# Altium footprint library PcbLib1.PcbLib: 29 footprints (part 1 of 2)
Each footprint in its own frame and in the unit in brackets; x right, y up, seen from the top. Pads: shape width x height; smd on the part's side, far side on the other; paste and mask are expansions set on the pad; w line width, h text height; cw(c..) or ccw(c..) is an arc to the next point about the centre after c.
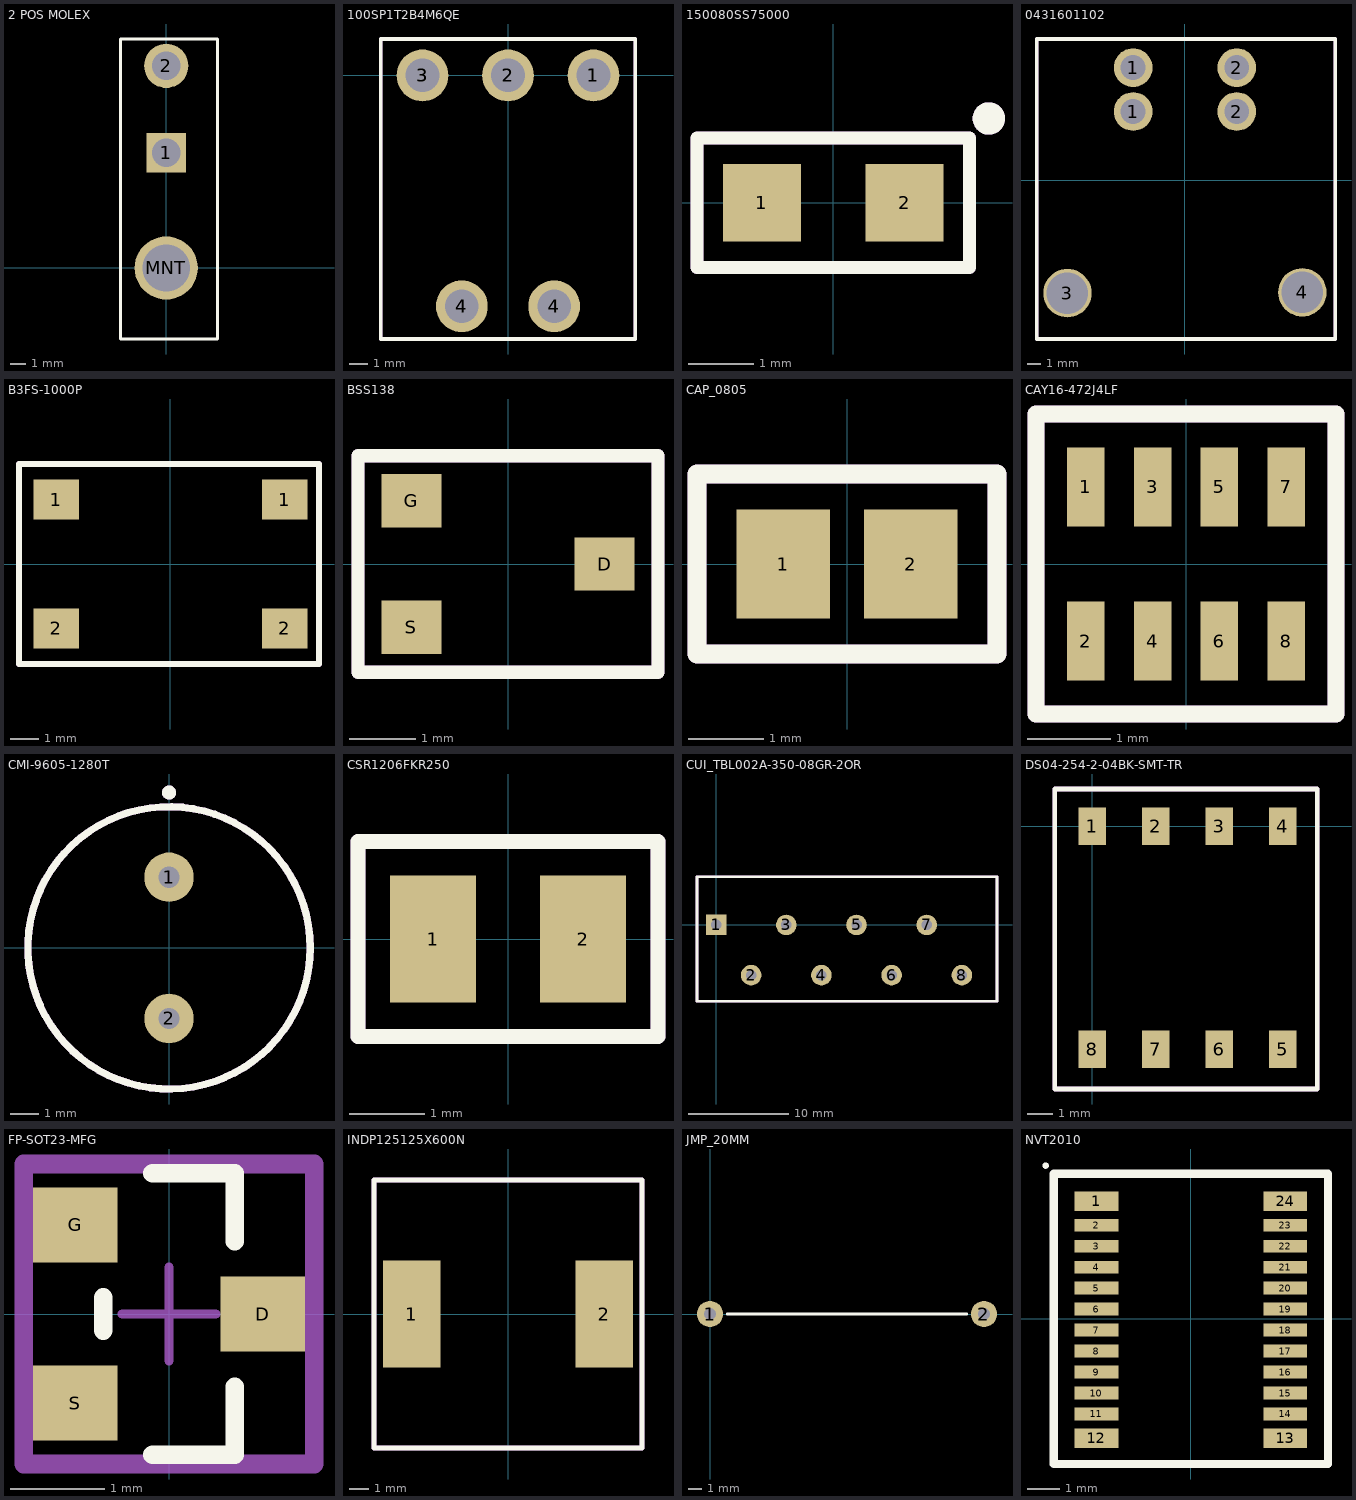
[diagram p0: the footprints below, top view; thin cyan lines are the x and y axes]

## 2 POS MOLEX [mm] "1724480002"
pads (3):
  rect 2.5x2.5 hole 1.8 mask+0.06: 1(0,7.3)
  round 2.8 hole 1.8 mask+0.06: 2(0,12.8)
  round 4 hole 3 unplated mask+0.06: MNT(0,0)
Top Overlay:
  lines w0.2: -2.9,-4.5 -2.9,14.5 3.25,14.5 3.25,-4.5 -2.9,-4.5
Mechanical 16:
  text ".Designator" at 0.838,-3.946 h1.52
3D body "1724480002.stp": height 11.4, standoff -3.6, extent -2.7,-6.567 3.1,13.367

## 100SP1T2B4M6QE [mm]
pads (10):
  round 2.85 hole 1.85 mask+0.06: 1(4.7,0) 1(4.7,0) 2(0,0) 2(0,0) 3(-4.7,0) 3(-4.7,0) 4(-2.54,-12.7) 4(-2.54,-12.7) 4(2.54,-12.7) 4(2.54,-12.7)
Top Overlay:
  lines w0.2: -7,-14.5 7,-14.5 7,2 -7,2 -7,-14.5
Mechanical 16:
  lines w0.2: -7,-14.5 7,-14.5 7,2 -7,2 -7,-14.5
  text ".Designator" at 0.338,-9.946 h1.52
3D body "100SPxT2B4M6xE.stp": height 6.87, standoff -3.16, extent -6.35,-26.56 6.35,0.59
3D body "100SPxT2B4M6xE.stp": height 6.87, standoff -3.16, extent -6.35,-26.56 6.35,0.59

## 150080SS75000 [mm] "150080SS75000"
pads (2):
  rect 1.2x1.2 smd mask+0.06: 1(-1.1,0) 2(1.1,0)
Top Overlay:
  circle w0.25: c2.4,1.3 r0.125
  lines w0.2: -2.1,-1 -2.1,1 2.1,1 2.1,-1 -2.1,-1
Mechanical 16:
  circle w0.25: c2.4,1.3 r0.125
  lines w0.2: -2.1,-1 -2.1,1 2.1,1 2.1,-1 -2.1,-1
  text ".Designator" at -0.546,-0.513 h1

## 0431601102 [mm] "CONN HDR 2POS 7.50MM R/A SLDR"
pads (6):
  round 2.8 hole 1.8 mask+0.07: 1(-3.746,4.978) 1(-3.746,8.153) 2(3.746,4.978) 2(3.746,8.153)
  round 3.5 hole 3 unplated mask+0.07: 3(-8.496,-8.153) 4(8.496,-8.103)
Top Overlay:
  lines w0.254: -10.7,-11.475 10.858,-11.475 10.858,10.225 -10.7,10.225 -10.7,-11.475
Mechanical 16:
  lines w0.254: -10.7,-11.475 10.858,-11.475 10.858,10.225 -10.7,10.225 -10.7,-11.475
  text ".Designator" at -6.846,-0.838 h1.52
3D body "431601102.stp": height 13.4, standoff -3.8, extent -10.462,-11.122 10.62,8.664

## B3FS-1000P [mm] "B3FS-1000P"
pads (4):
  rect 1.6x1.4 smd mask+0.06: 1(-4,2.25) 1(4,2.25) 2(-4,-2.25) 2(4,-2.25)
Top Overlay:
  lines w0.2: -5.3,-3.5 5.2,-3.5 5.2,3.5 -5.3,3.5 -5.3,-3.5
Mechanical 16:
  lines w0.2: -5.3,-3.5 5.2,-3.5 5.2,3.5 -5.3,3.5 -5.3,-3.5
  text ".Designator" at -1.646,-0.538 h1.52
3D body "B3FS_1000.step": height 3.11, standoff 0.01, extent -4.1,-3.15 3.9,3.15

## BSS138 [mm] "SOT23, 3-Leads, Body 2.90x2.35mm, Pitch 0.95mm, IPC Medium Density"
height 1.1
pads (3):
  rect 0.9x0.8 smd mask+0.06: D(1.45,0) G(-1.45,0.95) S(-1.45,-0.95)
Top Overlay:
  lines w0.2: -2.25,-1.625 -2.25,1.625 2.25,1.625 2.25,-1.625 -2.25,-1.625
Mechanical 16:
  lines w0.2: -2.25,-1.625 -2.25,1.625 2.25,1.625 2.25,-1.625 -2.25,-1.625
  text ".Designator" at -0.746,-0.313 h1
3D body "SOT95P235X110-3N.step": height 1.1, standoff 0, extent -1.3,-1.5 1.3,1.5

## CAP_0805 [mm] "Chip Capacitor, 2-Leads, Body 2.05x1.30mm, IPC Medium Density"
height 1.25
pads (2):
  rect 1.25x1.45 smd mask+0.06: 1(-0.85,0) 2(0.85,0)
Top Overlay:
  lines w0.254: -2,-1.2 2,-1.2 2,1.2 -2,1.2 -2,-1.2
Mechanical 16:
  lines w0.254: -2,-1.2 2,-1.2 2,1.2 -2,1.2 -2,-1.2
  text ".Designator" at -1.646,-0.513 h1
3D body "CAP_0805.step": height 1.25, standoff 0, extent -1.075,-0.7 1.075,0.7

## CAY16-472J4LF [mm] "CAY16-472J4LF"
pads (8):
  rect 0.45x0.95 smd mask+0.06: 1(-1.2,0.925) 2(-1.2,-0.925) 3(-0.4,0.925) 4(-0.4,-0.925) 5(0.4,0.925) 6(0.4,-0.925) 7(1.2,0.925) 8(1.2,-0.925)
Top Overlay:
  lines w0.2: -1.8,-1.8 -1.8,1.8 1.8,1.8 1.8,-1.8 -1.8,-1.8
Mechanical 16:
  lines w0.2: -1.8,-1.8 -1.8,1.8 1.8,1.8 1.8,-1.8 -1.8,-1.8
  text ".Designator" at -0.646,-0.413 h1
3D body "cay_16-f4.stp": height 0.51, standoff 0.01, extent -1.6,-0.8 1.6,0.8

## CMI-9605-1280T [mm] "MAGNETIC BUZZER INDICATOR"
pads (2):
  round 1.75 hole 0.75 mask+0.06: 1(0,2.5) 2(0,-2.5)
Top Overlay:
  circle w0.25: c0,5.5 r0.125
  circle w0.254: c0,0 r5
Mechanical 16:
  circle w0.25: c0,5.5 r0.125
  circle w0.254: c0,0 r5
  text ".Designator" at -3.246,-0.738 h1.52
3D body "CUI_DEVICES_CMI-9605-1280T.step": height 5.01, standoff -5.49, extent -4.8,-4.8 4.8,4.8

## CSR1206FKR250 [mm] "1206 Res"
pads (2):
  rect 1.15x1.7 smd mask+0.06: 1(-1,0) 2(1,0)
Top Overlay:
  lines w0.2: -2,-1.3 2,-1.3 2,1.3 -2,1.3 -2,-1.3
Mechanical 16:
  lines w0.2: -2,-1.3 2,-1.3 2,1.3 -2,1.3 -2,-1.3
  text ".Designator" at -1.246,-0.413 h1
3D body "CSR1206_stp.stp": height 0.54, standoff -0.01, extent -1.525,-0.775 1.525,0.775

## CUI_TBL002A-350-08GR-2OR [mm]
pads (8):
  rect 2.05x2.05 hole 1.05 mask+0.06: 1(0,0)
  round 2.05 hole 1.05 mask+0.06: 2(3.5,-5) 3(7,0) 4(10.5,-5) 5(14,0) 6(17.5,-5) 7(21,0) 8(24.5,-5)
Top Overlay:
  lines w0.254: -1.9,-7.6 28,-7.6 28,4.8 -1.9,4.8 -1.9,-7.6
Mechanical 16:
  lines w0.254: -1.9,-7.6 28,-7.6 28,4.8 -1.9,4.8 -1.9,-7.6
  text ".Designator" at 5.504,-2.238 h1.52
3D body "CUI_DEVICES_TBL002A-350-08GR-2OR.step": height 12.85, standoff -3.65, extent -1.725,-7.4 27.775,4.6

## DS04-254-2-04BK-SMT-TR [mm] "DIP SWITCH, SPST, 2.54 PITCH, FL"
pads (8):
  rect 1.1x1.5 smd mask+0.06: 1(0,0) 2(2.54,0) 3(5.08,0) 4(7.62,0) 5(7.62,-8.9) 6(5.08,-8.9) 7(2.54,-8.9) 8(0,-8.9)
Top Overlay:
  lines w0.2: -1.5,-10.5 -1.5,1.5 9,1.5 9,-10.5 -1.5,-10.5
Mechanical 16:
  lines w0.2: -1.5,-10.5 -1.5,1.5 9,1.5 9,-10.5 -1.5,-10.5
  text ".Designator" at 2.254,-4.738 h1.52
3D body "CUI_DEVICES_DS04-254-2-04BK-SMT-TR.step": height 4.01, standoff 0.01, extent -1.775,-9.425 9.385,0.475

## FP-SOT23-MFG [mm]
pads (3):
  rect 0.9x0.8 smd paste+0 mask+0: D(1,0) G(-1,0.95) S(-1,-0.95)
Top Overlay:
  lines w0.2: -0.7,-0.175 -0.7,0.175 ; -0.175,-1.5 0.7,-1.5 0.7,-0.775 ; -0.175,1.5 0.7,1.5 0.7,0.775
Mechanical 16:
  lines w0.1: -0.5,0 0.5,0 ; 0,-0.5 0,0.5
  lines w0.2: -1.55,-1.6 -1.55,1.6 1.55,1.6 1.55,-1.6 -1.55,-1.6
  text ".Designator" at 0,-0.001 h1
3D body "Trans_Diodes_Inc_DMN6075S-7_eec.STEP": height 0.25, standoff 0, extent -1.55,-1.6 1.55,1.6

## INDP125125X600N [mm]
pads (2):
  rect 2.9x5.4 smd mask+0.06: 1(-4.85,0) 2(4.85,0)
Top Overlay:
  lines w0.254: -6.75,-6.75 -6.75,6.75 6.75,6.75 6.75,-6.75 -6.75,-6.75
Mechanical 16:
  lines w0.254: -6.75,-6.75 6.75,-6.75 6.75,6.75 -6.75,6.75 -6.75,-6.75
  text ".Designator" at -1.946,-0.638 h1.52
3D body "srr1260.stp": height 6, standoff 0, extent -6.25,-6.25 6.25,6.25

## JMP_20MM [mm]
pads (2):
  round 1.9 hole 0.9 mask+0.06: 1(0,0) 2(20,0)
Top Overlay:
  lines w0.2: 1.25,0 18.75,0

## NVT2010 [mm]
pads (24):
  rect 1.35x0.6 smd mask+0.05: 1(-2.925,3.65) 12(-2.925,-3.7) 13(2.925,-3.7) 24(2.925,3.65)
  rect 1.35x0.4 smd mask+0.05: 2(-2.925,2.9) 3(-2.925,2.25) 4(-2.925,1.6) 5(-2.925,0.95) 6(-2.925,0.3) 7(-2.925,-0.35) 8(-2.925,-1) 9(-2.925,-1.65) 10(-2.925,-2.3) 11(-2.925,-2.95) 14(2.925,-2.95) 15(2.925,-2.3) 16(2.925,-1.65) 17(2.925,-1) 18(2.925,-0.35) 19(2.925,0.3) 20(2.925,0.95) 21(2.925,1.6) 22(2.925,2.25) 23(2.925,2.9)
Top Overlay:
  circle w0.1: c-4.5,4.75 r0.05
  lines w0.254: -4.25,-4.5 4.25,-4.5 4.25,4.5 -4.25,4.5 -4.25,-4.5
Mechanical 16:
  text ".Designator" at -0.841,-0.238 h1.52